# Altium schematic symbol library Transformers.SchLib: 1 symbol
Pins are listed as number, name and electrical type; pins without a type are passive.

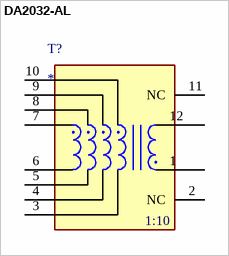
[diagram p0: symbol DA2032-AL]

## DA2032-AL
designator T?
10 µH ±10% 1:10 Flyback Transformer Surface Mount Ferrite Core 3A Peak, 3–24V Input
footprint DA2032-AL
pins: 1, 2 NC, 3, 4, 5, 6, 7, 8, 9, 10, 11 NC, 12
text: 1:10